# Altium schematic symbol library SMLMN2BCTT86C.SchLib: 1 symbol
Pins are listed as number, name and electrical type; pins without a type are passive.

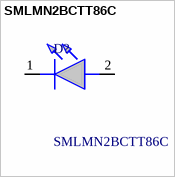
[diagram p0: symbol SMLMN2BCTT86C]

## SMLMN2BCTT86C
designator D?
Blue 470nm LED Indication - Discrete 2.9V 0805 (2012 Metric); Manufacturer_Name: ROHM Semiconductor; Geometry.Height: 1mm; Mouser Part Number: 755-SMLMN2BCTT86C; Mouser Price/Stock: https://www.mouser.co.uk/ProductDetail/ROHM-Semiconductor/SMLMN2BCTT86C?qs=EAJhGnHnT02MwYNfU4gt9w%3D%3D; Manufacturer_Part_Number: SMLMN2BCTT86C; Datasheet Link: https://fscdn.rohm.com/en/products/databook/datasheet/opto/led/chip_mono/smlmn2bctt86(c)-e.pdf
footprint LEDM2012X100N
pins: 1 K, 2 A